# EAGLE library part DRV8220DSGR (library DRV8220DSGR)
DRV8220DSGR Source: Datasheet <https://www.ti.com/lit/gpn/drv8220>
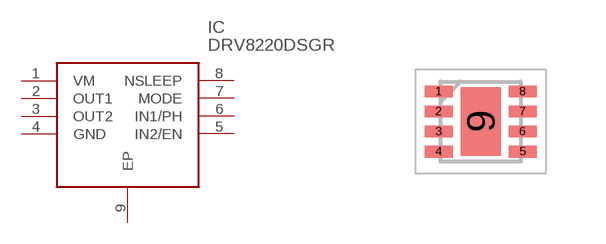
[diagram p0: symbol with the pads of SON50P200X200X80-9N; footprint SON50P200X200X80-9N]

Designator prefix IC

## DRV8220DSGR (DESCRIPTION: DRV8220DSGR; HEIGHT: 0.8mm; MANUFACTURER_NAME: Texas Instruments; MANUFACTURER_PART_NUMBER: DRV8220DSGR)  [SON50P200X200X80-9N]
1  VM  pwr
2  OUT1  pas
3  OUT2  pas
4  GND  pwr
5  IN2/EN  in
6  IN1/PH  in
7  MODE  in
8  NSLEEP  in
9  EP  pwr

## Footprint SON50P200X200X80-9N (pad centres in mm)
DSG
smd 0.7 x 0.3: 1 -1.05,0.75; 2 -1.05,0.25; 3 -1.05,-0.25; 4 -1.05,-0.75; 5 1.05,-0.75; 6 1.05,-0.25; 7 1.05,0.25; 8 1.05,0.75
smd 1 x 1.7: 9 0,0